# EAGLE library part G5V-1-DC24 (library Relay)
RELAY GEN PURPOSE SPDT 1A 24VDC Manufacturer's datasheet <https://omronfs.omron.com/en_US/ecb/products/pdf/en-g5v_1.pdf>
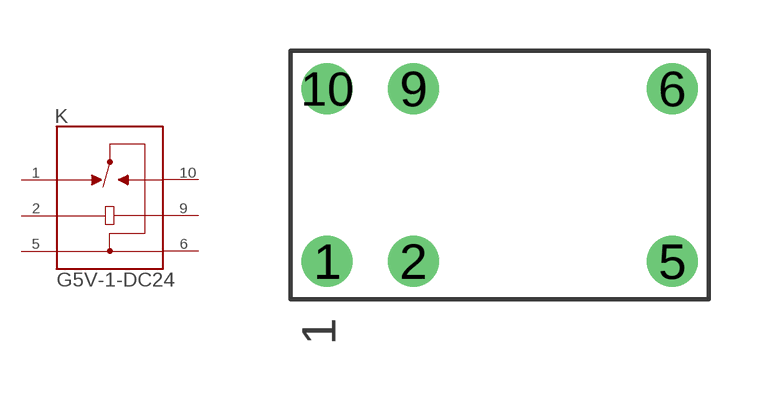
[diagram p13: symbol with the pads of G5V-1-DC24; footprint G5V-1-DC24]

Designator prefix K

## G5V-1-DC24 (CREATED_BY: PCBLayout.com; DIGIKEY_PN: Z775-ND; MANUFACTURER: Omron Electronics Inc-EMC Div; MPN: G5V-1-DC24)  [G5V-1-DC24]
1  1  pas
2  2  pas
5  5  pas
6  6  pas
9  9  pas
10  10  pas

## Footprint G5V-1-DC24 (pad centres in mm)
drill 1 pad 1.5: 1 -5.08,-2.54; 2 -2.54,-2.54; 5 5.08,-2.54; 6 5.08,2.54; 9 -2.54,2.54; 10 -5.08,2.54